# Altium schematic symbol library fuse_smd.SchLib: 1 symbol
Pins are listed as number, name and electrical type; pins without a type are passive.

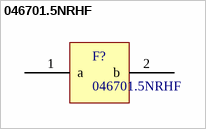
[diagram p0: symbol 046701.5NRHF]

## 046701.5NRHF
designator F?
Surface Mount Fuses 32V 1.5 A V/FA HALIDE FREE
footprint 046701.5NRHF (Surface Mount Fuses 32V 1.5 A V/FA HALIDE FREE)
pins: 1 a, 2 b